# Altium schematic symbol library CPF0402B5K1E1.SchLib: 1 symbol
Pins are listed as number, name and electrical type; pins without a type are passive.

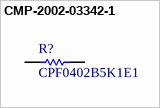
[diagram p0: symbol CMP-2002-03342-1]

## CMP-2002-03342-1
designator R?, comment CPF0402B5K1E1
Manufacturer: TE Connectivity / AMP; Part Number: CPF0402B5K1E1
footprint RESC1005X35X20ML05T10 (Chip Resistor, 2-Leads, Body 1.00x0.50mm, IPC Low Density)
footprint RESC1005X35X20NL05T10 (Chip Resistor, 2-Leads, Body 1.00x0.50mm, IPC Medium Density)
footprint RESC1005X35X20LL05T10 (Chip Resistor, 2-Leads, Body 1.00x0.50mm, IPC High Density)
pins: 1, 2
1 alternate drawing of the same symbol